# Altium footprint library 2020-02-15_07-12-40.PcbLib: 1 footprints
Each footprint in its own frame and in the unit in brackets; x right, y up, seen from the top. Pads: shape width x height; smd on the part's side, far side on the other; paste and mask are expansions set on the pad; w line width, h text height; cw(c..) or ccw(c..) is an arc to the next point about the centre after c.
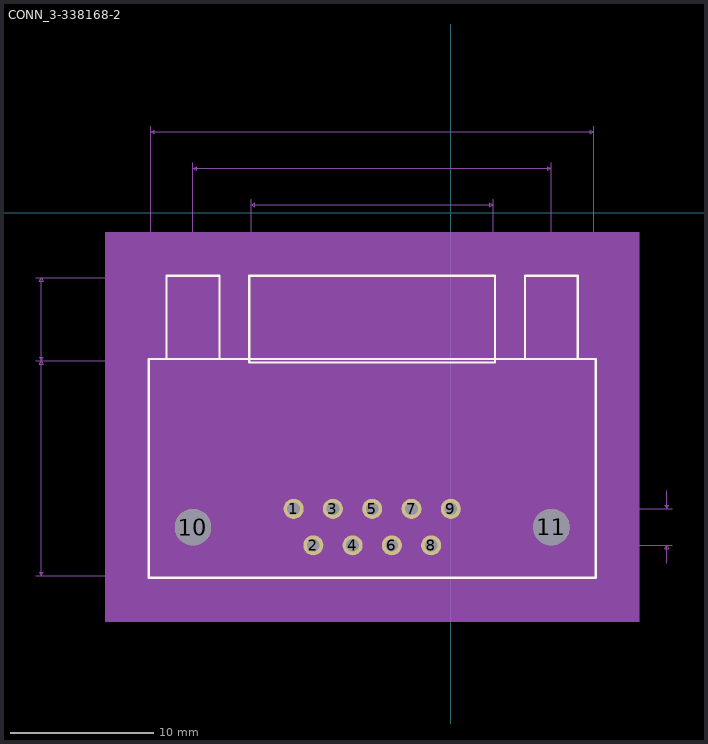
[diagram p0: the footprint, top view; thin cyan lines are the x and y axes]

## CONN_3-338168-2 [mil]
pads (11):
  round 55 hole 35: 1(-431.5,-813.39) 2(-377.56,-913.39) 3(-323.62,-813.39) 4(-269.69,-913.39) 5(-215.75,-813.39) 6(-161.81,-913.39) 7(-107.87,-813.39) 8(-53.94,-913.39) 9(0,-813.39)
  round 100 hole 100: 10(-707.75,-863.69) 11(276.25,-863.69)
Top Overlay:
  lines w6: -780.25,-401.69 -780.25,-173.69 -635.25,-173.69 -635.25,-401.69 ; 203.75,-401.69 203.75,-173.69 348.75,-173.69 348.75,-401.69 ; -829.25,-1002.69 -829.25,-401.69 397.75,-401.69 397.75,-1002.69 -829.25,-1002.69 ; -553.25,-411.69 -553.25,-173.69 121.75,-173.69 121.75,-411.69 -553.25,-411.69
Mechanical 5:
  region: -949.25,-53.69 517.75,-53.69 517.75,-1122.69 -949.25,-1122.69
Mechanical 7:
  lines w1: -1139.25,-997.69 -824.25,-997.69 -824.25,236.31 ; -1139.25,-178.69 -824.25,-178.69 ; -939.25,-863.69 -707.75,-863.69 -707.75,136.31 ; -939.25,-406.69 -824.25,-406.69 ; -548.25,-178.69 -548.25,36.31 ; -481.5,-78.69 -431.5,-78.69 ; -431.5,-813.39 -431.5,-63.69 ; -323.62,-813.39 -323.62,-63.69 ; -273.62,-78.69 -323.62,-78.69 ; -215.75,-913.39 607.75,-913.39 ; -215.75,-813.39 607.75,-813.39 ; 116.75,-178.69 116.75,36.31 ; 276.25,-863.69 276.25,136.31 ; 392.75,-997.69 392.75,236.31 ; 592.75,-963.39 592.75,-913.39 ; 592.75,-763.39 592.75,-813.39 ; -1124.25,-997.69 -1119.25,-987.69 -1129.25,-987.69 -1124.25,-997.69 ; -1124.25,-997.69 -1124.25,-406.69 ; -1124.25,-406.69 -1119.25,-396.69 -1129.25,-396.69 -1124.25,-406.69 ; -1124.25,-406.69 -1124.25,-178.69 ; -1124.25,-406.69 -1119.25,-416.69 -1129.25,-416.69 -1124.25,-406.69 ; -1124.25,-178.69 -1119.25,-188.69 -1129.25,-188.69 -1124.25,-178.69 ; -924.25,-863.69 -919.25,-853.69 -929.25,-853.69 -924.25,-863.69 ; -924.25,-863.69 -924.25,-406.69 ; -924.25,-406.69 -919.25,-416.69 -929.25,-416.69 -924.25,-406.69 ; -824.25,-406.69 -1139.25,-406.69 -824.25,-406.69 ; -824.25,221.31 -814.25,216.31 -814.25,226.31 -824.25,221.31 ; -824.25,221.31 392.75,221.31 ; -707.75,121.31 -697.75,116.31 -697.75,126.31 -707.75,121.31 ; -707.75,121.31 276.25,121.31 ; -548.25,21.31 -538.25,16.31 -538.25,26.31 -548.25,21.31 ; -548.25,21.31 116.75,21.31 ; -431.5,-78.69 -441.5,-83.69 -441.5,-73.69 -431.5,-78.69 ; -323.62,-78.69 -313.62,-83.69 -313.62,-73.69 -323.62,-78.69 ; 116.75,21.31 106.75,16.31 106.75,26.31 116.75,21.31 ; 276.25,121.31 266.25,116.31 266.25,126.31 276.25,121.31 ; 392.75,221.31 382.75,216.31 382.75,226.31 392.75,221.31 ; 592.75,-913.39 597.75,-923.39 587.75,-923.39 592.75,-913.39 ; 592.75,-813.39 597.75,-803.39 587.75,-803.39 592.75,-813.39
  text "0.228in/5.791mm" at -1331.75,-305.19 h25
  text "0.591in/15.011mm" at -1344.25,-647.69 h25
  text "0.457in/11.608mm" at -1144.25,-647.69 h25
  text "0.135in/3.429mm" at 612.75,-875.89 h25
  text "1.217in/30.912mm" at -315.75,241.31 h25
  text "0.984in/24.994mm" at -315.75,141.31 h25
  text "0.665in/16.891mm" at -315.75,41.31 h25
  text "0.054in/1.37mm" at -492.03,-58.69 h25
  text "Alt 2 Padstyle:OX90Y60D30P" at -540.75,-1357.69 h50
  text "Alt 1 Padstyle:OX60Y90D30P" at -540.75,-1257.69 h50
  text "Default Padstyle:EX55Y55D35P" at -565.75,-1157.69 h50
Mechanical 13:
  lines w1: -775.25,-406.69 -775.25,-178.69 -640.25,-178.69 -640.25,-406.69 ; -741.5,-406.69 -741.5,-178.69 ; -674,-406.69 -674,-178.69 ; -456.5,-997.69 -431.5,-1047.69 -406.5,-997.69 ; 208.75,-406.69 208.75,-178.69 343.75,-178.69 343.75,-406.69 ; 242.5,-406.69 242.5,-178.69 ; 310,-406.69 310,-178.69 ; -824.25,-997.69 -824.25,-406.69 392.75,-406.69 392.75,-997.69 -824.25,-997.69 ; -548.25,-406.69 -548.25,-178.69 116.75,-178.69 116.75,-406.69 -548.25,-406.69
Mechanical 15:
  region: 402.75,-1007.69 402.75,-168.69 -834.25,-168.69 -834.25,-1007.69
  lines w6: -834.25,-1007.69 402.75,-1007.69 402.75,-168.69 -834.25,-168.69 -834.25,-1007.69
3D body: height 10, standoff 0, extent 0,0 10,10